# Altium footprint library Crazy_PCB.PcbLib: 155 footprints (part 3 of 10)
Each footprint in its own frame and in the unit in brackets; x right, y up, seen from the top. Pads: shape width x height; smd on the part's side, far side on the other; paste and mask are expansions set on the pad; w line width, h text height; cw(c..) or ccw(c..) is an arc to the next point about the centre after c.
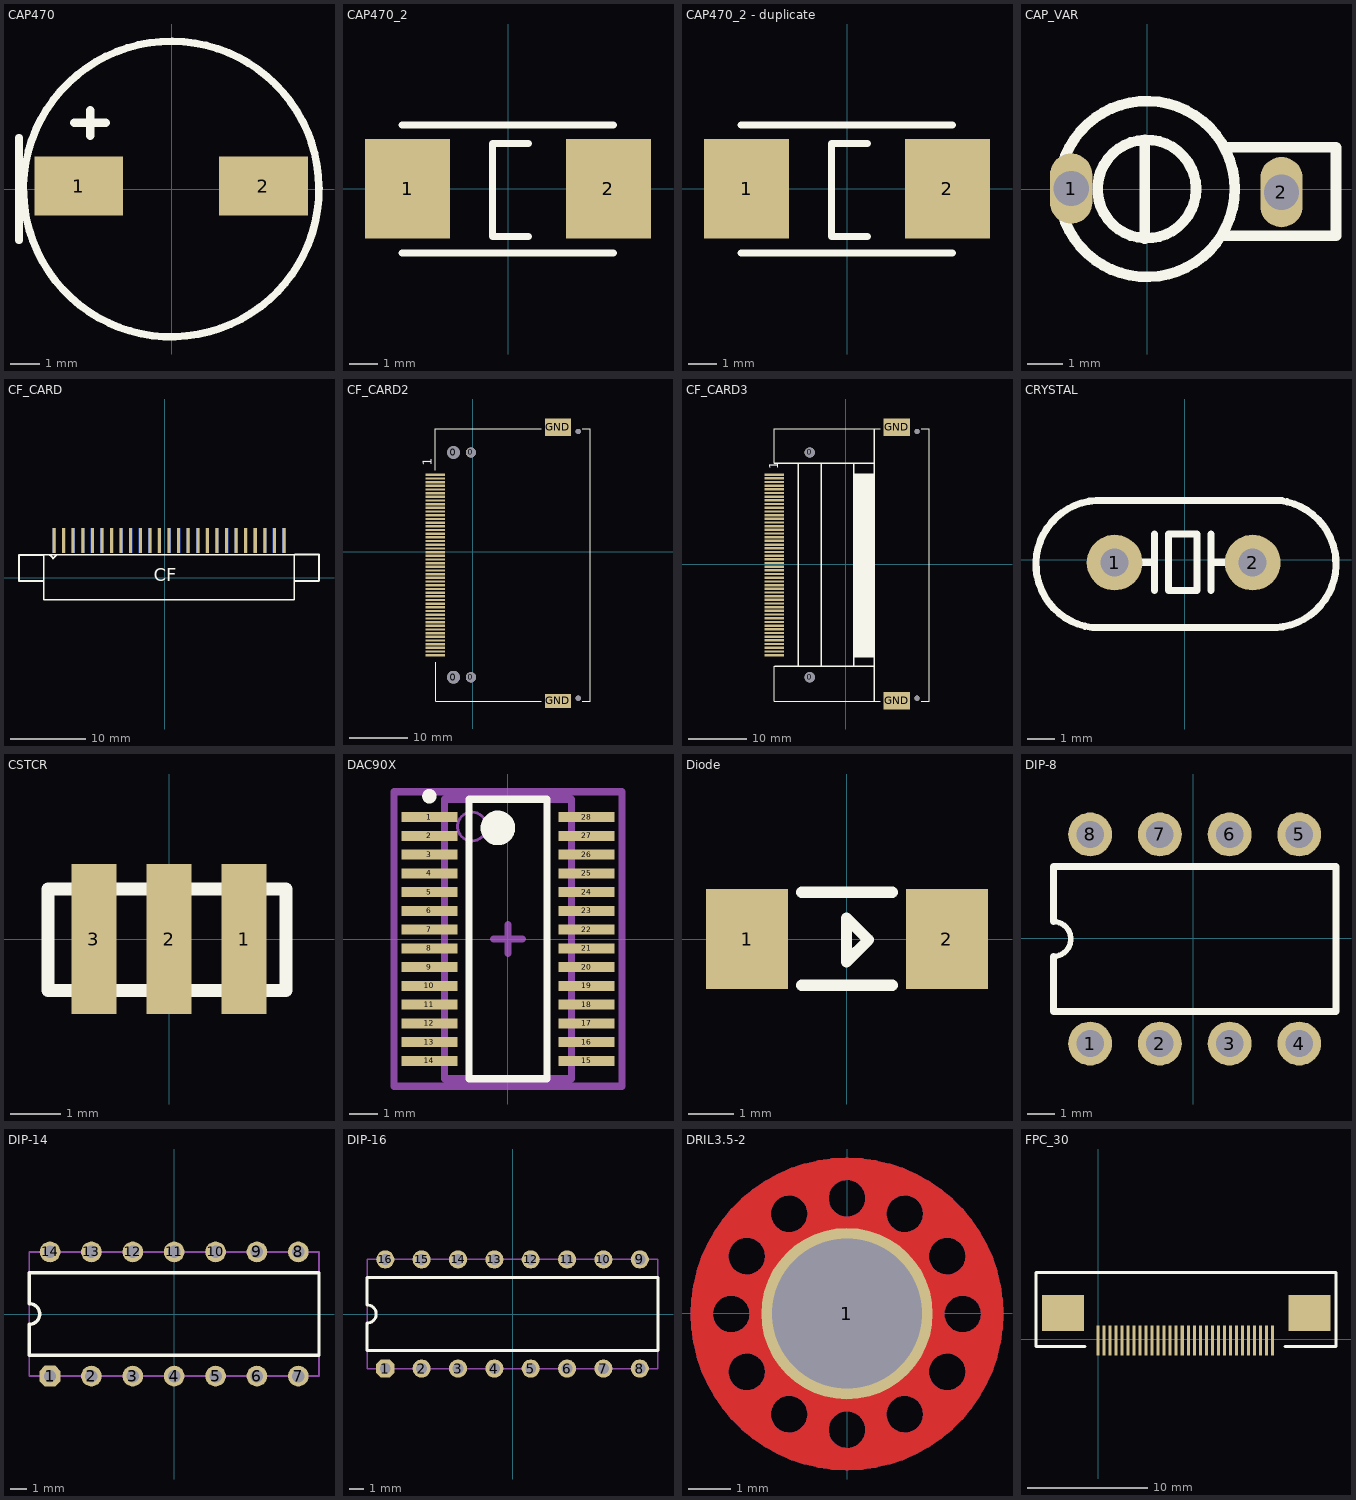
[diagram p2: the footprints below, top view; thin cyan lines are the x and y axes]

## CAP470 [mm]
pads (2):
  rect 3x2 smd: 1(-3.14,0.1) 2(3.11,0.1)
Top Overlay:
  lines w0.254: -5.16,-1.73 -5.16,1.73 ; 4.99,0.034 cw(c-0.01,0) 4.99,0.067
  lines w0.3: -3.29,2.24 -2.23,2.24 ; -2.75,1.81 -2.75,2.65

## CAP470_2 [mm]
pads (2):
  rect 3x3.5 smd: 1(-3.54,0) 2(3.54,0)
Top Overlay:
  lines w0.25: -3.73,-2.26 3.72,-2.26 ; -3.73,2.24 3.72,2.24 ; 0.73,-1.68 -0.54,-1.68 -0.54,1.59 0.73,1.59
3D body: height 3, standoff 0, extent -3.855,-2.385 3.845,2.365

## CAP470_2 - duplicate [mm]
pads (2):
  rect 3x3.5 smd: 1(-3.54,0) 2(3.54,0)
Top Overlay:
  lines w0.25: -3.73,-2.26 3.72,-2.26 ; -3.73,2.24 3.72,2.24 ; 0.73,-1.68 -0.54,-1.68 -0.54,1.59 0.73,1.59
3D body: height 3, standoff 0, extent -3.855,-2.385 3.845,2.365

## CAP_VAR [mm]
pads (2):
  oval 1.2x2 hole 1: 1(-2.17,0.02) 2(3.81,-0.08)
Top Overlay:
  circle w0.3: c-0.02,0.01 r1.4
  circle w0.3: c-0.02,0.01 r2.5
  lines w0.3: -0.08,-1.4 -0.08,1.37 ; 2.22,-1.32 5.36,-1.32 ; 2.28,1.2 5.34,1.2 ; 5.36,-1.31 5.36,1.19

## CF_CARD [mm]
pads (50):
  rect 0.4x3.3 smd far side: 1(-14.65,4.92) 3(-13.38,4.92) 5(-12.11,4.92) 7(-10.84,4.92) 9(-9.57,4.92) 11(-8.3,4.92) 13(-7.03,4.92) 15(-5.76,4.92) 17(-4.49,4.92) 19(-3.22,4.92) 21(-1.95,4.92) 23(-0.68,4.92) 25(0.59,4.92) 27(1.86,4.92) 29(3.13,4.92) 31(4.4,4.92) 33(5.67,4.92) 35(6.94,4.92) 37(8.21,4.92) 39(9.48,4.92) 41(10.75,4.92) 43(12.02,4.92) 45(13.29,4.92) 47(14.56,4.92) 49(15.83,4.92)
  rect 0.4x3.3 smd: 2(-14.65,4.92) 4(-13.38,4.92) 6(-12.11,4.92) 8(-10.84,4.92) 10(-9.57,4.92) 12(-8.3,4.92) 14(-7.03,4.92) 16(-5.76,4.92) 18(-4.49,4.92) 20(-3.22,4.92) 22(-1.95,4.92) 24(-0.68,4.92) 26(0.59,4.92) 28(1.86,4.92) 30(3.13,4.92) 32(4.4,4.92) 34(5.67,4.92) 36(6.94,4.92) 38(8.21,4.92) 40(9.48,4.92) 42(10.75,4.92) 44(12.02,4.92) 46(13.29,4.92) 48(14.56,4.92) 50(15.83,4.92)
Top Overlay:
  lines w0.203: -16.03,-2.96 17.2,-2.96 17.2,3.06 -16.03,3.06 -16.03,-2.95
  lines w0.254: -16.08,-0.45 -19.3,-0.45 -19.3,2.99 -19.27,3.02 -15.96,3.02 ; -15.245,3.025 -14.78,2.56 ; -14.78,2.55 -14.3,3.03 ; 17.21,-0.43 20.44,-0.43 20.47,-0.4 20.47,3.04 17.25,3.04
  text "CF" at -1.43,-1.08 h3

## CF_CARD2 [mm]
pads (58):
  round 2.2 hole 2.2 unplated: 0(-3.331,-21.631) 0(-3.331,17.104)
  round 1.75 hole 1.75 unplated: 0(-0.331,-21.631) 0(-0.331,17.104)
  round 0.9 hole 0.9 unplated: 0(18.169,-25.261) 0(18.169,20.739)
  rect 3.302x0.4 smd: 1(-6.485,13.271) 2(-6.485,12.636) 3(-6.485,12.001) 4(-6.485,11.366) 5(-6.485,10.731) 6(-6.485,10.096) 7(-6.485,9.461) 8(-6.485,8.826) 9(-6.485,8.191) 10(-6.485,7.556) 11(-6.485,6.921) 12(-6.485,6.286) 13(-6.485,5.651) 14(-6.485,5.016) 15(-6.485,4.381) 16(-6.485,3.746) 17(-6.485,3.111) 18(-6.485,2.476) 19(-6.485,1.841) 20(-6.485,1.206) 21(-6.485,0.571) 22(-6.485,-0.064) 23(-6.485,-0.699) 24(-6.485,-1.334) 25(-6.485,-1.969) 26(-6.485,-2.604) 27(-6.485,-3.239) 28(-6.485,-3.874) 29(-6.485,-4.509) 30(-6.485,-5.144) 31(-6.485,-5.779) 32(-6.485,-6.414) 33(-6.485,-7.049) 34(-6.485,-7.684) 35(-6.485,-8.319) 36(-6.485,-8.954) 37(-6.485,-9.589) 38(-6.485,-10.224) 39(-6.485,-10.859) 40(-6.485,-11.494) 41(-6.485,-12.129) 42(-6.485,-12.764) 43(-6.485,-13.399) 44(-6.485,-14.034) 45(-6.485,-14.669) 46(-6.485,-15.304) 47(-6.485,-15.939) 48(-6.485,-16.574) 49(-6.485,-17.209) 50(-6.485,-17.844)
  rect 4.5x2.4 smd: GND(14.669,-25.721)
  rect 4.5x3 smd: GND(14.669,21.489)
Top Overlay:
  lines w0.203: -6.44,14.029 -6.44,21.239 11.837,21.239 ; -6.43,-19.046 -6.43,-25.761 11.837,-25.761 ; 18.903,-25.761 20.269,-25.761 20.269,21.239 18.903,21.239
  text "1" at -7.04,14.79 h1.52

## CF_CARD3 [mm]
pads (56):
  round 1.75 hole 1.75 unplated: 0(-6.248,-19.515) 0(-6.248,19.22)
  round 0.9 hole 0.9 unplated: 0(12.252,-23.145) 0(12.252,22.855)
  rect 3.302x0.4 smd: 1(-12.355,15.411) 2(-12.355,14.776) 3(-12.355,14.141) 4(-12.355,13.506) 5(-12.355,12.871) 6(-12.355,12.236) 7(-12.355,11.601) 8(-12.355,10.966) 9(-12.355,10.331) 10(-12.355,9.696) 11(-12.355,9.061) 12(-12.355,8.426) 13(-12.355,7.791) 14(-12.355,7.156) 15(-12.355,6.521) 16(-12.355,5.886) 17(-12.355,5.251) 18(-12.355,4.616) 19(-12.355,3.981) 20(-12.355,3.346) 21(-12.355,2.711) 22(-12.355,2.076) 23(-12.355,1.441) 24(-12.355,0.806) 25(-12.355,0.171) 26(-12.355,-0.464) 27(-12.355,-1.099) 28(-12.355,-1.734) 29(-12.355,-2.369) 30(-12.355,-3.004) 31(-12.355,-3.639) 32(-12.355,-4.274) 33(-12.355,-4.909) 34(-12.355,-5.544) 35(-12.355,-6.179) 36(-12.355,-6.814) 37(-12.355,-7.449) 38(-12.355,-8.084) 39(-12.355,-8.719) 40(-12.355,-9.354) 41(-12.355,-9.989) 42(-12.355,-10.624) 43(-12.355,-11.259) 44(-12.355,-11.894) 45(-12.355,-12.529) 46(-12.355,-13.164) 47(-12.355,-13.799) 48(-12.355,-14.434) 49(-12.355,-15.069) 50(-12.355,-15.704)
  rect 4.5x3 smd: GND(8.752,-23.605) GND(8.752,23.605)
Top Overlay:
  rectangle: 1.26,-16.15 4.96,15.64
  lines w0.203: -12.367,-23.644 -12.367,-17.644 ; -12.367,17.346 -12.367,23.346 ; -12.357,23.355 5.919,23.355 ; -12.347,-23.645 5.919,-23.645 ; 12.985,-23.645 14.352,-23.645 14.352,23.355 12.985,23.355
  lines w0.25: -4.23,-17.52 -4.23,17.25
  lines w0.254: -12.337,17.376 -8.267,17.376 -8.267,-17.534 ; -12.307,-17.654 -8.307,-17.654 ; -8.49,17.376 4.82,17.376 ; -8.44,-17.654 4.87,-17.654 ; 1.35,-17.64 1.35,17.31 ; 4.87,-23.554 4.87,23.33
  text "1" at -11.66,16.32 h1.52

## CRYSTAL [mm]
pads (2):
  round 2 hole 1: 1(-2.517,-0.095) 2(2.436,-0.095)
Top Overlay:
  lines w0.254: -3.316,-2.424 cw(c-3.048,-0.15) -3.175,2.136 3.48,2.136 ; -3.282,-2.419 3.322,-2.419 ; -2.1,-0.082 -1.592,-0.082 -1.084,-0.082 ; -1.084,-1.098 -1.084,0.934 ; 0.948,-1.098 0.948,0.934 ; 0.948,-0.082 1.964,-0.082 ; 3.265,-2.426 ccw(c3.138,-0.14) 3.406,2.134 ; -0.576,-1.098 0.44,-1.098 0.44,0.934 -0.068,0.934 -0.576,0.934 -0.576,-1.098
3D body: height 2.5, standoff 0, extent -5.465,-2.553 5.555,2.263

## CSTCR [mm] "CSTCR(4~8MHz)"
pads (3):
  rect 0.9x3 smd: 1(1.5,0) 2(0,0) 3(-1.5,0)
Top Overlay:
  lines w0.254: -2.42,-1.03 -2.42,1 2.34,1 2.34,-1.03 -2.42,-1.03
3D body: height 1.5, standoff 0, extent -2.547,-1.157 2.467,1.127

## DAC90X [mm] "SOP, 28-Leads, Body 9.7x4.4mm (max), Pitch 0.65mm, IPC Medium Density"
height 2.65
pads (28):
  rect 1.95x0.35 smd: 1(-2.725,4.225) 2(-2.725,3.575) 3(-2.725,2.925) 4(-2.725,2.275) 5(-2.725,1.625) 6(-2.725,0.975) 7(-2.725,0.325) 8(-2.725,-0.325) 9(-2.725,-0.975) 10(-2.725,-1.625) 11(-2.725,-2.275) 12(-2.725,-2.925) 13(-2.725,-3.575) 14(-2.725,-4.225) 15(2.725,-4.225) 16(2.725,-3.575) 17(2.725,-2.925) 18(2.725,-2.275) 19(2.725,-1.625) 20(2.725,-0.975) 21(2.725,-0.325) 22(2.725,0.325) 23(2.725,0.975) 24(2.725,1.625) 25(2.725,2.275) 26(2.725,2.925) 27(2.725,3.575) 28(2.725,4.225)
Top Overlay:
  circle w0.25: c-2.725,4.95 r0.125
  circle w0.6: c-0.35,3.85 r0.3
  lines w0.254: -1.35,-4.85 -1.35,4.85 1.35,4.85 1.35,-4.85 -1.35,-4.85
Mechanical 13:
  circle w0.1: c-1.25,3.9 r0.5
  lines w0.254: -2.2,-4.85 -2.2,4.85 2.2,4.85 2.2,-4.85 -2.2,-4.85
Mechanical 15:
  lines w0.254: -0.5,0 0.5,0 ; 0,-0.5 0,0.5 ; -3.95,-5.1 -3.95,5.1 3.95,5.1 3.95,-5.1 -3.95,-5.1
3D body: height 2.65, standoff 0.1, extent -2.2,-4.85 2.2,4.85

## Diode [mm] "Chip Resistor; Body 5.0 x 2.5 mm (LxW typ)"
height 0.6
pads (2):
  rect 1.8x2.2 smd: 1(-2.2,0) 2(2.2,0)
Top Overlay:
  lines w0.25: -0.01,0.45 -0.01,-0.5 0.47,-0.02 ; -0.01,0.46 0.45,0
  lines w0.254: -1,-1.02 1,-1.02 ; -1,1.03 1,1.03
3D body: height 2, standoff 0, extent -3.202,-1.202 3.202,1.202

## DIP-8 [mm]
pads (8):
  round 1.6 hole 1: 1(-3.763,-3.834) 2(-1.223,-3.834) 3(1.317,-3.834) 4(3.857,-3.834) 5(3.857,3.786) 6(1.317,3.786) 7(-1.223,3.786) 8(-3.763,3.786)
Top Overlay:
  lines w0.2: -5.103,-0.659 ccw(c-5.103,-0.024) -5.103,0.611
  lines w0.254: -5.103,-0.659 -5.103,-2.674 5.197,-2.674 5.197,2.626 -5.103,2.626 -5.103,0.611

## DIP-14 [mil]
pads (14):
  oct 50x50 hole 30: 1(-300,-150)
  round 50 hole 30: 2(-200,-150) 3(-100,-150) 4(0,-150) 5(100,-150) 6(200,-150) 7(300,-150) 8(300,150) 9(200,150) 10(100,150) 11(0,150) 12(-100,150) 13(-200,150) 14(-300,150)
Top Overlay:
  lines w8: -350,-100 350,-100 350,100 -350,100 -350,25 cw(c-350,0) -350,-25 -350,-100
Mechanical 1:
  lines w4: -350,-150 -350,150 350,150 350,-150 -350,-150

## DIP-16 [mil]
pads (16):
  oct 50x50 hole 30: 1(-350,-150)
  round 50 hole 30: 2(-250,-150) 3(-150,-150) 4(-50,-150) 5(50,-150) 6(150,-150) 7(250,-150) 8(350,-150) 9(350,150) 10(250,150) 11(150,150) 12(50,150) 13(-50,150) 14(-150,150) 15(-250,150) 16(-350,150)
Top Overlay:
  lines w8: -400,-100 -400,-25 ccw(c-400,0) -400,25 -400,100 400,100 400,-100 -400,-100
Mechanical 1:
  lines w4: -400,-150 -400,150 400,150 400,-150 -400,-150

## DRIL3.5-2 [mm]
height 2.1
pads (1):
  round 4 hole 3.5: 1(-0.006,-0.006)
Top Layer:
  circle w0.3: c-0.006,-2.714 r0.575
  circle w0.3: c2.332,1.336 r0.575
  circle w0.3: c-0.006,2.686 r0.575
  circle w0.3: c2.332,-1.364 r0.575
  circle w0.3: c-1.356,-2.352 r0.575
  circle w0.3: c1.344,-2.352 r0.575
  circle w0.3: c-2.344,1.336 r0.575
  circle w0.3: c-2.344,-1.364 r0.575
  circle w0.3: c-2.706,-0.014 r0.575
  circle w0.3: c-1.356,2.325 r0.575
  circle w0.3: c1.344,2.325 r0.575
  circle w0.3: c2.694,-0.014 r0.575
  lines w0.25: -3.505,-0.09 -2.69,-0.905 ; -3.504,-0.125 -3.267,0.113 ; -3.501,0.179 -2.75,0.929 ; -3.499,0.204 -3.281,-0.014 ; -3.483,-0.412 -2.834,-1.062 ; -3.484,-0.405 -3.257,-0.178 ; -3.472,0.477 -3.226,0.231 ; -3.466,0.513 -2.872,1.108 ; -3.445,-0.665 -3.154,-0.374 ; -3.426,0.731 -3.1,0.405 ; -3.423,-0.772 -2.913,-1.282 ; -3.389,-0.91 -2.992,-0.513 ; -3.387,0.893 -2.919,1.361 ; -3.365,0.97 -2.916,0.521 ; -3.32,-1.14 -2.765,-0.586 ; -3.301,-1.194 -2.84,-1.655 ; -3.291,1.196 -2.654,0.559 ; -3.238,-1.358 -2.312,-0.433 ; -3.229,1.35 -1.37,3.21 ; -3.204,1.409 -2.84,1.045 ; -3.144,-1.564 -2.919,-1.339 ; -3.106,1.611 -2.913,1.418 ; -3.045,-1.75 -1.742,-3.053 ; -3.039,-1.76 -2.872,-1.592 ; -2.998,1.803 -2.834,1.638 ; -2.925,-1.945 -2.75,-1.771 ; -2.88,1.985 -2.69,1.795 ; -2.842,2.038 -2.058,2.822 ; -2.832,0.547 -2.572,0.808 ; -2.801,-2.121 -2.572,-1.892 ; -2.752,2.157 -2.488,1.893 ; -2.706,-0.589 -2.488,-0.807 ; -2.667,-2.287 -2.318,-1.938 ; -2.635,-1.86 -1.852,-2.643 ; -2.636,0.84 0.848,-2.643 ; -2.615,2.32 -2.183,1.888 ; -2.542,0.537 -2.318,0.762 ; -2.469,2.474 2.481,-2.476 ; -2.461,-0.534 -2.183,-0.812 ; -2.372,-2.593 -1.866,-2.087 ; -2.369,-0.789 0.769,2.349 ; -2.369,1.911 -1.931,2.349 ; -2.345,0.434 -0.454,2.326 ; -2.313,2.618 -1.923,2.228 ; -2.262,-1.933 -1.925,-2.27 ; -2.262,0.767 0.775,-2.27 ; -2.211,-2.732 -1.924,-2.444 ; -2.207,0.272 -0.292,2.187 ; -2.171,-0.224 -0.216,-2.179 ; -2.149,2.754 -1.902,2.506 ; -2.133,0.038 0.046,-2.141 ; -2.134,0.045 -0.065,2.114 ; -2.116,-0.836 0.816,2.096 ; -2.116,1.864 -1.884,2.096 ; -2.042,-1.853 -1.845,-2.05 ; -2.042,0.847 0.855,-2.05 ; -2.041,-2.861 -1.841,-2.661 ; -1.975,2.88 -1.793,2.698 ; -1.937,-0.958 0.938,1.917 ; -1.937,1.742 -1.762,1.917 ; -1.885,-1.71 -1.702,-1.893 ; -1.885,0.99 0.998,-1.893 ; -1.861,-2.982 -1.696,-2.816 ; -1.816,-1.137 1.117,1.796 ; -1.816,1.563 -1.583,1.796 ; -1.792,-1.203 -1.195,-1.8 ; -1.792,1.497 1.505,-1.8 ; -1.792,2.997 -1.627,2.832 ; -1.788,-1.507 -1.5,-1.795 ; -1.788,1.193 1.2,-1.795 ; -1.77,-1.39 1.371,1.75 ; -1.77,1.31 -1.329,1.75 ; -1.672,-3.092 -1.491,-2.911 ; -1.647,-2.848 -1.186,-3.309 ; -1.622,-1.842 1.822,1.602 ; -1.598,3.103 -1.393,2.898 ; -1.472,-3.192 -1.178,-2.899 ; -1.453,1.758 1.765,-1.46 ; -1.394,3.199 3.207,-1.402 ; -1.381,2.899 -0.913,3.367 ; -1.274,-2.921 -0.764,-3.431 ; -1.264,-1.784 1.765,1.244 ; -1.261,-3.281 -0.567,-2.587 ; -1.179,3.284 -0.581,2.686 ; -1.174,1.779 1.787,-1.182 ; -1.127,2.852 -0.533,3.446 ; -1.054,-2.841 -0.404,-3.491 ; -1.047,-1.867 1.847,1.027 ; -1.038,-3.358 -0.557,-2.878 ; -0.983,1.887 1.895,-0.99 ; -0.951,3.356 -0.526,2.931 ; -0.949,2.731 -0.199,3.481 ; -0.897,-2.698 -0.082,-3.513 ; -0.892,-2.012 1.993,0.872 ; -0.849,2.054 2.061,-0.856 ; -0.828,2.552 -0.567,2.813 ; -0.809,-2.53 2.51,0.789 ; -0.804,-2.191 -0.526,-2.469 ; -0.802,-3.422 -0.454,-3.074 ; -0.799,-2.496 -0.581,-2.714 ; -0.797,-2.217 2.198,0.777 ; -0.782,2.287 2.295,-0.79 ; -0.782,2.298 -0.557,2.522 ; -0.71,3.415 -0.4,3.105 ; -0.551,-3.471 -0.292,-3.213 ; -0.453,3.458 -0.216,3.221 ; -0.4,-2.295 -2.287,-0.408 0.388,2.267 ; -0.282,-3.503 -0.065,-3.286 ; -0.177,3.482 0.046,3.259 ; -0.132,-2.153 2.133,0.113 ; -0.132,3.247 0.105,3.485 ; -0.006,-3.289 0.212,-3.507 ; -0.006,2.111 2.119,-0.014 ; 0.007,-3.514 0.388,-3.133 ; 0.121,3.484 0.907,2.698 ; 0.158,-2.163 2.143,-0.178 ; 0.158,3.237 0.385,3.464 ; 0.239,-3.234 0.484,-3.479 ; 0.239,2.166 2.174,0.231 ; 0.322,-3.498 1.004,-2.816 ; 0.355,-2.266 2.246,-0.374 ; 0.355,3.134 0.645,3.425 ; 0.448,3.457 1.073,2.832 ; 0.493,-2.428 0.834,-2.087 ; 0.493,2.972 0.89,3.37 ; 0.529,-2.924 0.978,-3.373 ; 0.529,2.476 0.777,2.228 ; 0.567,-2.662 1.203,-3.298 ; 0.566,-2.655 0.776,-2.444 ; 0.567,2.738 0.798,2.506 ; 0.566,2.745 1.12,3.3 ; 0.673,-3.447 1.209,-2.911 ; 0.739,-3.434 0.413,-3.108 0.859,-2.661 ; 0.817,3.388 1.307,2.898 ; 1.053,-2.848 1.416,-3.212 ; 1.078,-1.842 1.822,-1.098 ; 1.079,-3.341 1.522,-2.899 ; 1.247,1.758 1.765,1.24 ; 1.253,3.252 3.26,1.245 ; 1.319,2.899 1.544,3.124 ; 1.338,3.218 0.413,2.292 2.3,0.405 ; 1.426,-2.921 1.619,-3.114 ; 1.436,-1.784 1.765,-1.456 ; 1.526,1.779 1.787,1.518 ; 1.573,2.852 1.74,3.02 ; 1.594,-3.127 3.107,-1.613 ; 1.646,-2.841 1.81,-3.005 ; 1.653,-1.867 1.847,-1.673 ; 1.717,1.887 1.895,1.71 ; 1.751,2.731 1.925,2.905 ; 1.803,-2.698 1.992,-2.887 ; 1.808,-2.012 1.993,-1.828 ; 1.851,2.054 2.061,1.844 ; 1.854,2.951 2.959,1.846 ; 1.872,2.552 2.101,2.781 ; 1.891,-2.53 2.51,-1.911 ; 1.896,-2.191 2.327,-2.622 ; 1.901,-2.496 2.164,-2.759 ; 1.903,-2.217 2.198,-1.923 ; 1.918,2.287 2.295,1.91 ; 1.918,2.298 2.268,2.647 ; 2.067,-0.854 2.408,-0.513 ; 2.067,1.846 2.573,2.352 ; 2.235,-1.931 2.626,-2.321 ; 2.235,0.769 2.484,0.521 ; 2.424,-0.796 2.635,-0.586 ; 2.424,1.904 2.712,2.191 ; 2.514,-1.909 2.761,-2.156 ; 2.514,0.791 2.746,0.559 ; 2.568,0.547 3.261,1.241 ; 2.641,-0.879 3.088,-0.433 ; 2.641,1.821 2.842,2.021 ; 2.694,-0.589 3.292,-1.187 ; 2.706,-1.801 2.888,-1.983 ; 2.706,0.899 3.492,0.113 ; 2.796,-1.024 3.478,-0.342 ; 2.796,1.676 2.962,1.841 ; 2.839,-1.634 3.004,-1.799 ; 2.839,1.066 3.464,0.441 ; 2.858,0.537 3.338,1.018 ; 2.879,-1.541 3.321,-1.099 ; 2.879,1.159 3.172,1.452 ; 2.891,-1.229 3.427,-0.693 ; 2.891,1.471 3.072,1.652 ; 2.906,-1.401 3.111,-1.606 ; 2.906,1.299 3.396,0.809 ; 2.939,-0.534 3.364,-0.959 ; 3.055,0.434 3.402,0.782 ; 3.193,0.272 3.451,0.531 ; 3.229,-0.224 3.465,-0.46 ; 3.267,0.038 3.49,-0.185 ; 3.266,0.045 3.483,0.263 ; 3.422,-0.717 3.113,-0.408 3.494,-0.026 ; -2.524,-2.445 2.425,2.504 -2.524,-2.445
  lines w0.3: -3.506,-0.014 ccw(c-0.006,-0.014) -0.006,-3.514 ccw(c-0.006,-0.014) 3.494,-0.014 ccw(c-0.006,-0.014) -0.006,3.486 ccw(c-0.006,-0.014) -3.506,-0.014
Bottom Layer:
  circle w0.3: c-0.006,-2.714 r0.575
  circle w0.3: c2.332,1.336 r0.575
  circle w0.3: c-0.006,2.686 r0.575
  circle w0.3: c2.332,-1.364 r0.575
  circle w0.3: c-1.356,-2.352 r0.575
  circle w0.3: c1.344,-2.352 r0.575
  circle w0.3: c-2.344,1.336 r0.575
  circle w0.3: c-2.344,-1.364 r0.575
  circle w0.3: c-2.706,-0.014 r0.575
  circle w0.3: c-1.356,2.325 r0.575
  circle w0.3: c1.344,2.325 r0.575
  circle w0.3: c2.694,-0.014 r0.575
  lines w0.25: -3.505,-0.09 -2.69,-0.905 ; -3.504,-0.125 -3.267,0.113 ; -3.501,0.179 -2.75,0.929 ; -3.499,0.204 -3.281,-0.014 ; -3.483,-0.412 -2.834,-1.062 ; -3.484,-0.405 -3.257,-0.178 ; -3.472,0.477 -3.226,0.231 ; -3.466,0.513 -2.872,1.108 ; -3.445,-0.665 -3.154,-0.374 ; -3.426,0.731 -3.1,0.405 ; -3.423,-0.772 -2.913,-1.282 ; -3.389,-0.91 -2.992,-0.513 ; -3.387,0.893 -2.919,1.361 ; -3.365,0.97 -2.916,0.521 ; -3.32,-1.14 -2.765,-0.586 ; -3.301,-1.194 -2.84,-1.655 ; -3.291,1.196 -2.654,0.559 ; -3.238,-1.358 -2.312,-0.433 ; -3.229,1.35 -1.37,3.21 ; -3.204,1.409 -2.84,1.045 ; -3.144,-1.564 -2.919,-1.339 ; -3.106,1.611 -2.913,1.418 ; -3.045,-1.75 -1.742,-3.053 ; -3.039,-1.76 -2.872,-1.592 ; -2.998,1.803 -2.834,1.638 ; -2.925,-1.945 -2.75,-1.771 ; -2.88,1.985 -2.69,1.795 ; -2.842,2.038 -2.058,2.822 ; -2.832,0.547 -2.572,0.808 ; -2.801,-2.121 -2.572,-1.892 ; -2.752,2.157 -2.488,1.893 ; -2.706,-0.589 -2.488,-0.807 ; -2.667,-2.287 -2.318,-1.938 ; -2.635,-1.86 -1.852,-2.643 ; -2.636,0.84 0.848,-2.643 ; -2.615,2.32 -2.183,1.888 ; -2.542,0.537 -2.318,0.762 ; -2.469,2.474 2.481,-2.476 ; -2.461,-0.534 -2.183,-0.812 ; -2.372,-2.593 -1.866,-2.087 ; -2.369,-0.789 0.769,2.349 ; -2.369,1.911 -1.931,2.349 ; -2.345,0.434 -0.454,2.326 ; -2.313,2.618 -1.923,2.228 ; -2.262,-1.933 -1.925,-2.27 ; -2.262,0.767 0.775,-2.27 ; -2.211,-2.732 -1.924,-2.444 ; -2.207,0.272 -0.292,2.187 ; -2.171,-0.224 -0.216,-2.179 ; -2.149,2.754 -1.902,2.506 ; -2.133,0.038 0.046,-2.141 ; -2.134,0.045 -0.065,2.114 ; -2.116,-0.836 0.816,2.096 ; -2.116,1.864 -1.884,2.096 ; -2.042,-1.853 -1.845,-2.05 ; -2.042,0.847 0.855,-2.05 ; -2.041,-2.861 -1.841,-2.661 ; -1.975,2.88 -1.793,2.698 ; -1.937,-0.958 0.938,1.917 ; -1.937,1.742 -1.762,1.917 ; -1.885,-1.71 -1.702,-1.893 ; -1.885,0.99 0.998,-1.893 ; -1.861,-2.982 -1.696,-2.816 ; -1.816,-1.137 1.117,1.796 ; -1.816,1.563 -1.583,1.796 ; -1.792,-1.203 -1.195,-1.8 ; -1.792,1.497 1.505,-1.8 ; -1.792,2.997 -1.627,2.832 ; -1.788,-1.507 -1.5,-1.795 ; -1.788,1.193 1.2,-1.795 ; -1.77,-1.39 1.371,1.75 ; -1.77,1.31 -1.329,1.75 ; -1.672,-3.092 -1.491,-2.911 ; -1.647,-2.848 -1.186,-3.309 ; -1.622,-1.842 1.822,1.602 ; -1.598,3.103 -1.393,2.898 ; -1.472,-3.192 -1.178,-2.899 ; -1.453,1.758 1.765,-1.46 ; -1.394,3.199 3.207,-1.402 ; -1.381,2.899 -0.913,3.367 ; -1.274,-2.921 -0.764,-3.431 ; -1.264,-1.784 1.765,1.244 ; -1.261,-3.281 -0.567,-2.587 ; -1.179,3.284 -0.581,2.686 ; -1.174,1.779 1.787,-1.182 ; -1.127,2.852 -0.533,3.446 ; -1.054,-2.841 -0.404,-3.491 ; -1.047,-1.867 1.847,1.027 ; -1.038,-3.358 -0.557,-2.878 ; -0.983,1.887 1.895,-0.99 ; -0.951,3.356 -0.526,2.931 ; -0.949,2.731 -0.199,3.481 ; -0.897,-2.698 -0.082,-3.513 ; -0.892,-2.012 1.993,0.872 ; -0.849,2.054 2.061,-0.856 ; -0.828,2.552 -0.567,2.813 ; -0.809,-2.53 2.51,0.789 ; -0.804,-2.191 -0.526,-2.469 ; -0.802,-3.422 -0.454,-3.074 ; -0.799,-2.496 -0.581,-2.714 ; -0.797,-2.217 2.198,0.777 ; -0.782,2.287 2.295,-0.79 ; -0.782,2.298 -0.557,2.522 ; -0.71,3.415 -0.4,3.105 ; -0.551,-3.471 -0.292,-3.213 ; -0.453,3.458 -0.216,3.221 ; -0.4,-2.295 -2.287,-0.408 0.388,2.267 ; -0.282,-3.503 -0.065,-3.286 ; -0.177,3.482 0.046,3.259 ; -0.132,-2.153 2.133,0.113 ; -0.132,3.247 0.105,3.485 ; -0.006,-3.289 0.212,-3.507 ; -0.006,2.111 2.119,-0.014 ; 0.007,-3.514 0.388,-3.133 ; 0.121,3.484 0.907,2.698 ; 0.158,-2.163 2.143,-0.178 ; 0.158,3.237 0.385,3.464 ; 0.239,-3.234 0.484,-3.479 ; 0.239,2.166 2.174,0.231 ; 0.322,-3.498 1.004,-2.816 ; 0.355,-2.266 2.246,-0.374 ; 0.355,3.134 0.645,3.425 ; 0.448,3.457 1.073,2.832 ; 0.493,-2.428 0.834,-2.087 ; 0.493,2.972 0.89,3.37 ; 0.529,-2.924 0.978,-3.373 ; 0.529,2.476 0.777,2.228 ; 0.567,-2.662 1.203,-3.298 ; 0.566,-2.655 0.776,-2.444 ; 0.567,2.738 0.798,2.506 ; 0.566,2.745 1.12,3.3 ; 0.673,-3.447 1.209,-2.911 ; 0.739,-3.434 0.413,-3.108 0.859,-2.661 ; 0.817,3.388 1.307,2.898 ; 1.053,-2.848 1.416,-3.212 ; 1.078,-1.842 1.822,-1.098 ; 1.079,-3.341 1.522,-2.899 ; 1.247,1.758 1.765,1.24 ; 1.253,3.252 3.26,1.245 ; 1.319,2.899 1.544,3.124 ; 1.338,3.218 0.413,2.292 2.3,0.405 ; 1.426,-2.921 1.619,-3.114 ; 1.436,-1.784 1.765,-1.456 ; 1.526,1.779 1.787,1.518 ; 1.573,2.852 1.74,3.02 ; 1.594,-3.127 3.107,-1.613 ; 1.646,-2.841 1.81,-3.005 ; 1.653,-1.867 1.847,-1.673 ; 1.717,1.887 1.895,1.71 ; 1.751,2.731 1.925,2.905 ; 1.803,-2.698 1.992,-2.887 ; 1.808,-2.012 1.993,-1.828 ; 1.851,2.054 2.061,1.844 ; 1.854,2.951 2.959,1.846 ; 1.872,2.552 2.101,2.781 ; 1.891,-2.53 2.51,-1.911 ; 1.896,-2.191 2.327,-2.622 ; 1.901,-2.496 2.164,-2.759 ; 1.903,-2.217 2.198,-1.923 ; 1.918,2.287 2.295,1.91 ; 1.918,2.298 2.268,2.647 ; 2.067,-0.854 2.408,-0.513 ; 2.067,1.846 2.573,2.352 ; 2.235,-1.931 2.626,-2.321 ; 2.235,0.769 2.484,0.521 ; 2.424,-0.796 2.635,-0.586 ; 2.424,1.904 2.712,2.191 ; 2.514,-1.909 2.761,-2.156 ; 2.514,0.791 2.746,0.559 ; 2.568,0.547 3.261,1.241 ; 2.641,-0.879 3.088,-0.433 ; 2.641,1.821 2.842,2.021 ; 2.694,-0.589 3.292,-1.187 ; 2.706,-1.801 2.888,-1.983 ; 2.706,0.899 3.492,0.113 ; 2.796,-1.024 3.478,-0.342 ; 2.796,1.676 2.962,1.841 ; 2.839,-1.634 3.004,-1.799 ; 2.839,1.066 3.464,0.441 ; 2.858,0.537 3.338,1.018 ; 2.879,-1.541 3.321,-1.099 ; 2.879,1.159 3.172,1.452 ; 2.891,-1.229 3.427,-0.693 ; 2.891,1.471 3.072,1.652 ; 2.906,-1.401 3.111,-1.606 ; 2.906,1.299 3.396,0.809 ; 2.939,-0.534 3.364,-0.959 ; 3.055,0.434 3.402,0.782 ; 3.193,0.272 3.451,0.531 ; 3.229,-0.224 3.465,-0.46 ; 3.267,0.038 3.49,-0.185 ; 3.266,0.045 3.483,0.263 ; 3.422,-0.717 3.113,-0.408 3.494,-0.026 ; -2.524,-2.445 2.425,2.504 -2.524,-2.445
  lines w0.3: -3.506,-0.014 ccw(c-0.006,-0.014) -0.006,-3.514 ccw(c-0.006,-0.014) 3.494,-0.014 ccw(c-0.006,-0.014) -0.006,3.486 ccw(c-0.006,-0.014) -3.506,-0.014
Top Solder:
  circle w1.8: c-0.006,-0.006 r2.872
Bottom Solder:
  circle w1.8: c-0.006,-0.006 r2.872

## FPC_30 [mm]
pads (32):
  rect 0.25x2.5 smd: 1(-0.017,-0.076) 2(0.483,-0.076) 3(0.983,-0.076) 4(1.483,-0.076) 5(1.983,-0.076) 6(2.483,-0.076) 7(2.983,-0.076) 8(3.483,-0.076) 9(3.983,-0.076) 10(4.483,-0.076) 11(4.983,-0.076) 12(5.483,-0.076) 13(5.983,-0.076) 14(6.483,-0.076) 15(6.983,-0.076) 16(7.483,-0.076) 17(7.983,-0.076) 18(8.483,-0.076) 19(8.983,-0.076) 20(9.483,-0.076) 21(9.983,-0.076) 22(10.483,-0.076) 23(10.983,-0.076) 24(11.483,-0.076) 25(11.983,-0.076) 26(12.483,-0.076) 27(12.983,-0.076) 28(13.483,-0.076) 29(13.983,-0.076) 30(14.483,-0.076)
  rect 3.5x3 smd: ""(-2.938,2.21) ""(17.56,2.21)
Top Overlay:
  lines w0.254: -1.117,-0.601 -5.18,-0.601 -5.18,5.549 19.77,5.549 19.77,-0.601 15.52,-0.601